# EAGLE library part LAZURITE (library MyLib)
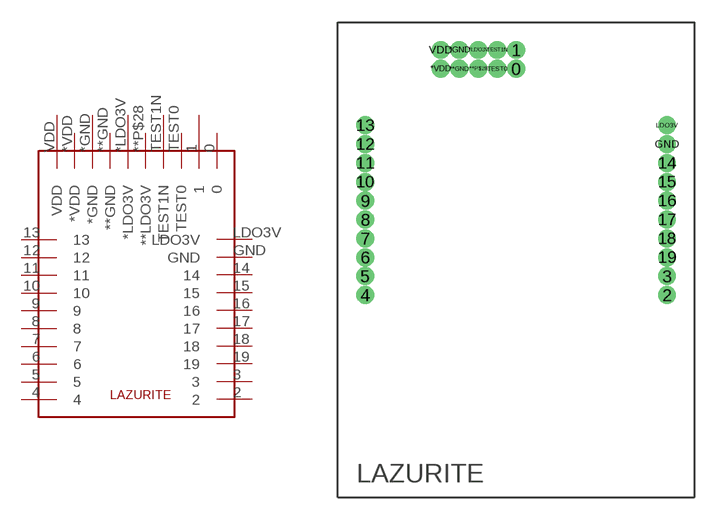
[diagram p9: symbol with the pads of LAZURITE; footprint LAZURITE]

Designator prefix -

## LAZURITE  [LAZURITE]
0  0
1  1
2  2
3  3
4  4
5  5
6  6
7  7
8  8
9  9
10  10
11  11
12  12
13  13
14  14
15  15
16  16
17  17
18  18
19  19
**GND  **GND
**P$28  **LDO3V
*GND  *GND
*LDO3V  *LDO3V
*VDD  *VDD
GND  GND
LDO3V  LDO3V
TEST0  TEST0
TEST1N  TEST1N
VDD  VDD

## Footprint LAZURITE (pad centres in mm)
drill 0.7 pad 1.105: 0 12,29.16; 1 12,30.43; 2 22.16,13.92; 3 22.16,15.19; 4 1.84,13.92; 5 1.84,15.19; 6 1.84,16.46; 7 1.84,17.73; 8 1.84,19; 9 1.84,20.27; 10 1.84,21.54; 11 1.84,22.81; 12 1.84,24.08; 13 1.84,25.35; 14 22.16,22.81; 15 22.16,21.54; 16 22.16,20.27; 17 22.16,19; 18 22.16,17.73; 19 22.16,16.46; **GND 8.19,29.16; **P$28 9.46,29.16; *GND 8.19,30.43; *LDO3V 9.46,30.43; *VDD 6.92,29.16; GND 22.16,24.08; LDO3V 22.16,25.35; TEST0 10.73,29.16; TEST1N 10.73,30.43; VDD 6.92,30.43